# Altium integrated library Resistor Networks, Arrays.IntLib: 11 symbols
Pins are listed as number, name and electrical type; pins without a type are passive.

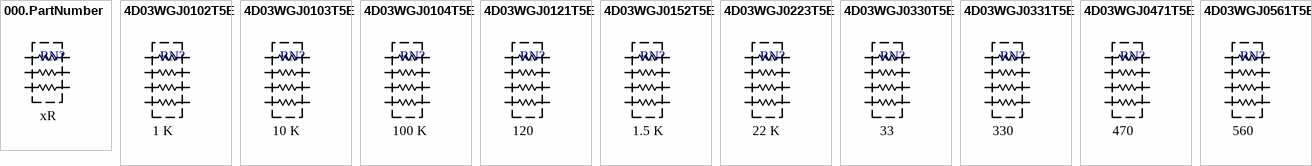
[diagram p0: symbols 000.PartNumber to 4D03WGJ0561T5E]

## 000.PartNumber
designator RN?  Resistance (Ohms): xR  (hidden comment: *)
Digikey Description; Number of Pins: *; Height - Seated (Max): *; Size / Dimension: *; Supplier Device Package: *; Package / Case: *; Mounting Type: *; Applications: *; Operating Temperature: *; Temperature Coefficient: *; Power Per Element: *; Resistor-Ratio-Drift: *; Resistor Matching Ratio: *; Number of Resistors: *; Tolerance: *; Circuit Type: *; Package: *; Series: *; Manufacturer: *; Ozdisan Link: *; Digikey Link: *; Farnell TR Link: *; Mouser Link: *
pins: 1, 2, 3, 4, 5, 6

## 4D03WGJ0102T5E
designator RN?  Resistance (Ohms): 1 K  (hidden comment: *)
RES ARRAY 4 RES 1K OHM 0603; Manufacturer: Royal Electronic Factory Co.,Ltd.; Temperature Coefficient: ±200PPM/°C; Power Per Element: 62.5mW; Number of Resistors: 4; Tolerance: ±5%; Circuit Type: Isolated; Number of Pins: 8; Height - Seated (Max): 0.6mm; Size / Dimension: 0.024"" (0.6mm); Supplier Device Package: 0603; Package / Case: 0603, Convex, Long Side Terminals; Mounting Type: Surface Mount; Applications: Master board, hard disk; Operating Temperature: -; Resistor-Ratio-Drift: -; Resistor Matching Ratio: -; Package: Tape & Reel (TR); Series: -; Digikey Link: -; Ozdisan Link: https://www.ozdisan.com/pasif-komponentler/direncler/sira-direncler/4D03WGJ0102T5E; Farnell TR Link: -; Mouser Link: -
footprint ROYALOHM_4D03
pins: 1, 2, 3, 4, 5, 6, 7, 8

## 4D03WGJ0103T5E
designator RN?  Resistance (Ohms): 10 K  (hidden comment: *)
RES ARRAY 4 RES 10K OHM 0603; Manufacturer: Royal Electronic Factory Co.,Ltd.; Temperature Coefficient: ±200PPM/°C; Power Per Element: 62.5mW; Number of Resistors: 4; Tolerance: ±5%; Circuit Type: Isolated; Number of Pins: 8; Height - Seated (Max): 0.6mm; Size / Dimension: 0.024"" (0.6mm); Supplier Device Package: 0603; Package / Case: 0603, Convex, Long Side Terminals; Mounting Type: Surface Mount; Applications: Master board, hard disk; Operating Temperature: -; Resistor-Ratio-Drift: -; Resistor Matching Ratio: -; Package: Tape & Reel (TR); Series: -; Digikey Link: -; Ozdisan Link: https://www.ozdisan.com/pasif-komponentler/direncler/sira-direncler/4D03WGJ0103T5E; Farnell TR Link: -; Mouser Link: -
footprint ROYALOHM_4D03
pins: 1, 2, 3, 4, 5, 6, 7, 8

## 4D03WGJ0104T5E
designator RN?  Resistance (Ohms): 100 K  (hidden comment: *)
RES ARRAY 4 RES 100K OHM 0603; Manufacturer: Royal Electronic Factory Co.,Ltd.; Temperature Coefficient: ±200PPM/°C; Power Per Element: 62.5mW; Number of Resistors: 4; Tolerance: ±5%; Circuit Type: Isolated; Number of Pins: 8; Height - Seated (Max): 0.6mm; Size / Dimension: 0.024"" (0.6mm); Supplier Device Package: 0603; Package / Case: 0603, Convex, Long Side Terminals; Mounting Type: Surface Mount; Applications: Master board, hard disk; Operating Temperature: -; Resistor-Ratio-Drift: -; Resistor Matching Ratio: -; Package: Tape & Reel (TR); Series: -; Digikey Link: -; Ozdisan Link: https://www.ozdisan.com/pasif-komponentler/direncler/sira-direncler/4D03WGJ0104T5E; Farnell TR Link: -; Mouser Link: -
footprint ROYALOHM_4D03
pins: 1, 2, 3, 4, 5, 6, 7, 8

## 4D03WGJ0121T5E
designator RN?  Resistance (Ohms): 120  (hidden comment: *)
RES ARRAY 4 RES 120 OHM 0603; Manufacturer: Royal Electronic Factory Co.,Ltd.; Temperature Coefficient: ±200PPM/°C; Power Per Element: 62.5mW; Number of Resistors: 4; Tolerance: ±5%; Circuit Type: Isolated; Number of Pins: 8; Height - Seated (Max): 0.6mm; Size / Dimension: 0.024"" (0.6mm); Supplier Device Package: 0603; Package / Case: 0603, Convex, Long Side Terminals; Mounting Type: Surface Mount; Applications: Master board, hard disk; Operating Temperature: -; Resistor-Ratio-Drift: -; Resistor Matching Ratio: -; Package: Tape & Reel (TR); Series: -; Digikey Link: -; Ozdisan Link: https://www.ozdisan.com/pasif-komponentler/direncler/sira-direncler/4D03WGJ0121T5E; Farnell TR Link: -; Mouser Link: -
footprint ROYALOHM_4D03
pins: 1, 2, 3, 4, 5, 6, 7, 8

## 4D03WGJ0152T5E
designator RN?  Resistance (Ohms): 1.5 K  (hidden comment: *)
RES ARRAY 4 RES 1.5K OHM 0603; Manufacturer: Royal Electronic Factory Co.,Ltd.; Temperature Coefficient: ±200PPM/°C; Power Per Element: 62.5mW; Number of Resistors: 4; Tolerance: ±5%; Circuit Type: Isolated; Number of Pins: 8; Height - Seated (Max): 0.6mm; Size / Dimension: 0.024"" (0.6mm); Supplier Device Package: 0603; Package / Case: 0603, Convex, Long Side Terminals; Mounting Type: Surface Mount; Applications: Master board, hard disk; Operating Temperature: -; Resistor-Ratio-Drift: -; Resistor Matching Ratio: -; Package: Tape & Reel (TR); Series: -; Digikey Link: -; Ozdisan Link: https://www.ozdisan.com/pasif-komponentler/direncler/sira-direncler/4D03WGJ0152T5E; Farnell TR Link: -; Mouser Link: -
footprint ROYALOHM_4D03
pins: 1, 2, 3, 4, 5, 6, 7, 8

## 4D03WGJ0223T5E
designator RN?  Resistance (Ohms): 22 K  (hidden comment: *)
RES ARRAY 4 RES 22K OHM 0603; Manufacturer: Royal Electronic Factory Co.,Ltd.; Temperature Coefficient: ±200PPM/°C; Power Per Element: 62.5mW; Number of Resistors: 4; Tolerance: ±5%; Circuit Type: Isolated; Number of Pins: 8; Height - Seated (Max): 0.6mm; Size / Dimension: 0.024"" (0.6mm); Supplier Device Package: 0603; Package / Case: 0603, Convex, Long Side Terminals; Mounting Type: Surface Mount; Applications: Master board, hard disk; Operating Temperature: -; Resistor-Ratio-Drift: -; Resistor Matching Ratio: -; Package: Tape & Reel (TR); Series: -; Digikey Link: -; Ozdisan Link: https://www.ozdisan.com/pasif-komponentler/direncler/sira-direncler/4D03WGJ0223T5E; Farnell TR Link: -; Mouser Link: -
footprint ROYALOHM_4D03
pins: 1, 2, 3, 4, 5, 6, 7, 8

## 4D03WGJ0330T5E
designator RN?  Resistance (Ohms): 33  (hidden comment: *)
RES ARRAY 4 RES 33R OHM 0603; Manufacturer: Royal Electronic Factory Co.,Ltd.; Temperature Coefficient: ±200PPM/°C; Power Per Element: 62.5mW; Number of Resistors: 4; Tolerance: ±5%; Circuit Type: Isolated; Number of Pins: 8; Height - Seated (Max): 0.6mm; Size / Dimension: 0.024"" (0.6mm); Supplier Device Package: 0603; Package / Case: 0603, Convex, Long Side Terminals; Mounting Type: Surface Mount; Applications: Master board, hard disk; Operating Temperature: -; Resistor-Ratio-Drift: -; Resistor Matching Ratio: -; Package: Tape & Reel (TR); Series: -; Digikey Link: -; Ozdisan Link: https://www.ozdisan.com/pasif-komponentler/direncler/sira-direncler/4D03WGJ0330T5E; Farnell TR Link: -; Mouser Link: -
footprint ROYALOHM_4D03
pins: 1, 2, 3, 4, 5, 6, 7, 8

## 4D03WGJ0331T5E
designator RN?  Resistance (Ohms): 330  (hidden comment: *)
RES ARRAY 4 RES 330R OHM 0603; Manufacturer: Royal Electronic Factory Co.,Ltd.; Temperature Coefficient: ±200PPM/°C; Power Per Element: 62.5mW; Number of Resistors: 4; Tolerance: ±5%; Circuit Type: Isolated; Number of Pins: 8; Height - Seated (Max): 0.6mm; Size / Dimension: 0.024"" (0.6mm); Supplier Device Package: 0603; Package / Case: 0603, Convex, Long Side Terminals; Mounting Type: Surface Mount; Applications: Master board, hard disk; Operating Temperature: -; Resistor-Ratio-Drift: -; Resistor Matching Ratio: -; Package: Tape & Reel (TR); Series: -; Digikey Link: -; Ozdisan Link: https://www.ozdisan.com/pasif-komponentler/direncler/sira-direncler/4D03WGJ0331T5E; Farnell TR Link: -; Mouser Link: -
footprint ROYALOHM_4D03
pins: 1, 2, 3, 4, 5, 6, 7, 8

## 4D03WGJ0471T5E
designator RN?  Resistance (Ohms): 470  (hidden comment: *)
RES ARRAY 4 RES 470R OHM 0603; Manufacturer: Royal Electronic Factory Co.,Ltd.; Temperature Coefficient: ±200PPM/°C; Power Per Element: 62.5mW; Number of Resistors: 4; Tolerance: ±5%; Circuit Type: Isolated; Number of Pins: 8; Height - Seated (Max): 0.6mm; Size / Dimension: 0.024"" (0.6mm); Supplier Device Package: 0603; Package / Case: 0603, Convex, Long Side Terminals; Mounting Type: Surface Mount; Applications: Master board, hard disk; Operating Temperature: -; Resistor-Ratio-Drift: -; Resistor Matching Ratio: -; Package: Tape & Reel (TR); Series: -; Digikey Link: -; Ozdisan Link: https://www.ozdisan.com/pasif-komponentler/direncler/sira-direncler/4D03WGJ0471T5E; Farnell TR Link: -; Mouser Link: -
footprint ROYALOHM_4D03
pins: 1, 2, 3, 4, 5, 6, 7, 8

## 4D03WGJ0561T5E
designator RN?  Resistance (Ohms): 560  (hidden comment: *)
RES ARRAY 4 RES 560R OHM 0603; Manufacturer: Royal Electronic Factory Co.,Ltd.; Temperature Coefficient: ±200PPM/°C; Power Per Element: 62.5mW; Number of Resistors: 4; Tolerance: ±5%; Circuit Type: Isolated; Number of Pins: 8; Height - Seated (Max): 0.6mm; Size / Dimension: 0.024"" (0.6mm); Supplier Device Package: 0603; Package / Case: 0603, Convex, Long Side Terminals; Mounting Type: Surface Mount; Applications: Master board, hard disk; Operating Temperature: -; Resistor-Ratio-Drift: -; Resistor Matching Ratio: -; Package: Tape & Reel (TR); Series: -; Digikey Link: -; Ozdisan Link: https://www.ozdisan.com/pasif-komponentler/direncler/sira-direncler/4D03WGJ0561T5E; Farnell TR Link: -; Mouser Link: -
footprint ROYALOHM_4D03
pins: 1, 2, 3, 4, 5, 6, 7, 8